# Altium footprint library WE-PD HV.PcbLib: 6 footprints
Each footprint in its own frame and in the unit in brackets; x right, y up, seen from the top. Pads: shape width x height; smd on the part's side, far side on the other; paste and mask are expansions set on the pad; w line width, h text height; cw(c..) or ccw(c..) is an arc to the next point about the centre after c.
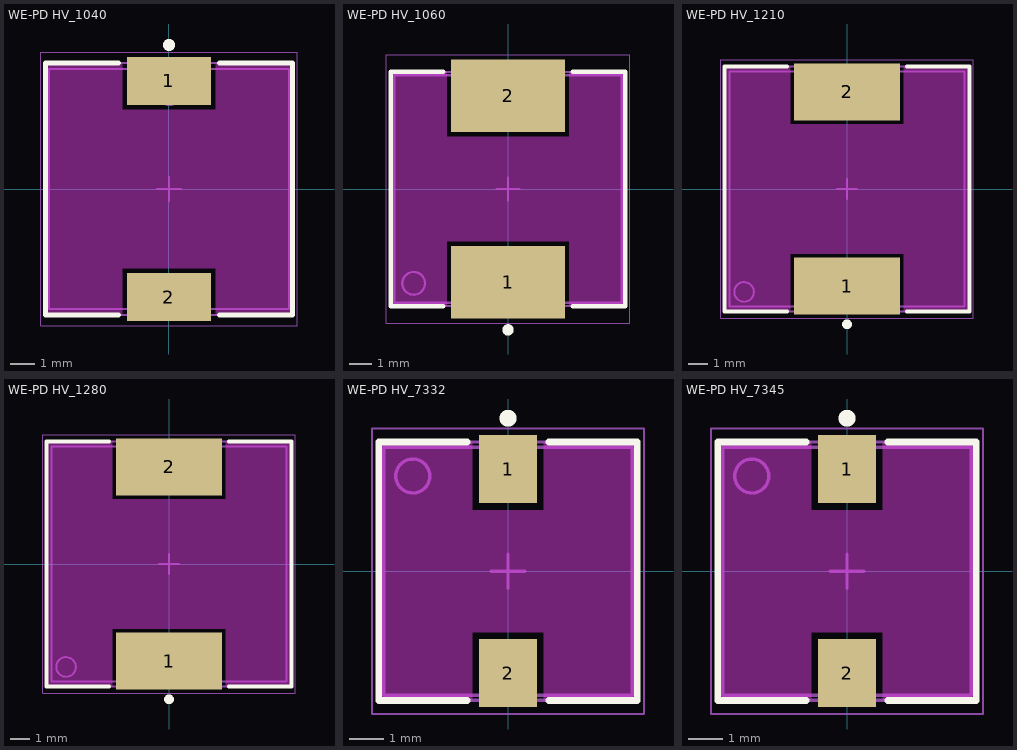
[diagram p0: the footprints below, top view; thin cyan lines are the x and y axes]

## WE-PD HV_1040 [mm] "SMT High Voltage Power Inductor, 2-Leads, body 10x10mm"
height 4
pads (2):
  rect 3.5x2 smd: 1(0,4.5) 2(0,-4.5)
Top Layer keep-out:
  region: -5.15,5.25 -5.15,-5.25 -1.95,-5.25 -1.95,-3.3 1.95,-3.3 1.95,-5.25 5.15,-5.25 5.15,5.25 1.95,5.25 1.95,3.3 -1.95,3.3 -1.95,5.25
Top Overlay:
  circle w0.25: c0,6 r0.125
  lines w0.2: -2.1,-5.25 -5.15,-5.25 -5.15,5.25 -2.1,5.25 ; 2.1,-5.25 5.15,-5.25 5.15,5.25 2.1,5.25
Top Assembly:
  circle w0.1: c0,4 r0.5
  lines w0.1: -5.15,-5.25 -5.15,5.25 5.15,5.25 5.15,-5.25 -5.15,-5.25
Top Designator:
  text ".Designator" at -3.647,-0.357 h1
Top 3D Body:
  circle w0.1: c0,4 r0.5
  lines w0.1: -5,-5 5,-5 5,5 -5,5 -5,-5
Top Courtyard:
  lines w0.05: -5.35,-5.7 5.35,-5.7 5.35,5.7 -5.35,5.7 -5.35,-5.7
Top Component Center:
  lines w0.1: -0.5,0 0.5,0 ; 0,-0.5 0,0.5
3D body "WE-PD HV_1040.stp": height 4.02, standoff 0.02, extent -5,-5 5,5

## WE-PD HV_1060 [mm] "SMT High Voltage Power Inductor, 2-Leads, body 10x10mm"
height 6
pads (2):
  rect 5x3.2 smd: 1(0,-4.1) 2(0,4.1)
Top Layer keep-out:
  region: -5.15,5.15 -5.15,-5.15 -2.7,-5.15 -2.7,-2.3 2.7,-2.3 2.7,-5.15 5.15,-5.15 5.15,5.15 2.7,5.15 2.7,2.3 -2.7,2.3 -2.7,5.15
Top Overlay:
  circle w0.25: c0,-6.2 r0.125
  lines w0.2: -2.85,-5.15 -5.15,-5.15 -5.15,5.15 -2.85,5.15 ; 2.85,-5.15 5.15,-5.15 5.15,5.15 2.85,5.15
Top Assembly:
  circle w0.1: c-4.15,-4.15 r0.5
  lines w0.1: -5.15,-5.15 5.15,-5.15 5.15,5.15 -5.15,5.15 -5.15,-5.15
Top Designator:
  text ".Designator" at -3.647,-0.357 h1
Top 3D Body:
  circle w0.1: c-4.15,-4.15 r0.5
  lines w0.1: -5,-5 5,-5 5,5 -5,5 -5,-5
Top Courtyard:
  lines w0.05: -5.35,-5.9 5.35,-5.9 5.35,5.9 -5.35,5.9 -5.35,-5.9
Top Component Center:
  lines w0.1: -0.5,0 0.5,0 ; 0,-0.5 0,0.5
3D body "7687714xxx.stp": height 5.7, standoff 0.05, extent -5,-5 5,5

## WE-PD HV_1210 [mm] "SMT High Voltage Power Inductor, 2-Leads, body 12.00x12.00mm"
height 10.5
pads (2):
  rect 5.4x2.9 smd: 1(0,-4.95) 2(0,4.95)
Top Layer keep-out:
  region: -6.25,6.25 -6.25,-6.25 -2.9,-6.25 -2.9,-3.3 2.9,-3.3 2.9,-6.25 6.25,-6.25 6.25,6.25 2.9,6.25 2.9,3.3 -2.9,3.3 -2.9,6.25
Top Overlay:
  circle w0.25: c0,-6.9 r0.125
  lines w0.2: -3.05,-6.25 -6.25,-6.25 -6.25,6.25 -3.05,6.25 ; 3.05,-6.25 6.25,-6.25 6.25,6.25 3.05,6.25
Top Assembly:
  circle w0.1: c-5.25,-5.25 r0.5
  lines w0.1: -6.25,-6.25 -6.25,6.25 6.25,6.25 6.25,-6.25 -6.25,-6.25
Top Designator:
  text ".Designator" at -3.647,-0.357 h1
Top 3D Body:
  circle w0.1: c-5.25,-5.25 r0.5
  lines w0.1: -6,-6 -6,6 6,6 6,-6 -6,-6
Top Courtyard:
  lines w0.05: -6.45,-6.6 -6.45,6.6 6.45,6.6 6.45,-6.6 -6.45,-6.6
Top Component Center:
  lines w0.1: -0.5,0 0.5,0 ; 0,-0.5 0,0.5
3D body "7687709xxx.stp": height 9.7, standoff 0, extent -6,-6 6,6

## WE-PD HV_1280 [mm] "SMT High Voltage Power Inductor, 2-Leads, body 12.00x12.00mm"
height 8.5
pads (2):
  rect 5.4x2.9 smd: 1(0,-4.95) 2(0,4.95)
Top Layer keep-out:
  region: -6.25,6.25 -6.25,-6.25 -2.9,-6.25 -2.9,-3.3 2.9,-3.3 2.9,-6.25 6.25,-6.25 6.25,6.25 2.9,6.25 2.9,3.3 -2.9,3.3 -2.9,6.25
Top Overlay:
  circle w0.25: c0,-6.9 r0.125
  lines w0.2: -3.05,-6.25 -6.25,-6.25 -6.25,6.25 -3.05,6.25 ; 3.05,-6.25 6.25,-6.25 6.25,6.25 3.05,6.25
Top Assembly:
  circle w0.1: c-5.25,-5.25 r0.5
  lines w0.1: -6.25,-6.25 6.25,-6.25 6.25,6.25 -6.25,6.25 -6.25,-6.25
Top Designator:
  text ".Designator" at -3.647,-0.357 h1
Top 3D Body:
  circle w0.1: c-5.25,-5.25 r0.5
  lines w0.1: -6,-6 6,-6 6,6 -6,6 -6,-6
Top Courtyard:
  lines w0.05: -6.45,-6.6 6.45,-6.6 6.45,6.6 -6.45,6.6 -6.45,-6.6
Top Component Center:
  lines w0.1: -0.5,0 0.5,0 ; 0,-0.5 0,0.5
3D body "WE-PD HV_1280.stp": height 8.5, standoff 0, extent -6,-6 6,6

## WE-PD HV_7332 [mm] "SMT High Voltage Power Inductor, 2-Leads, body 7.30x7.30mm"
height 3.2
pads (2):
  rect 1.7x2 smd: 1(0,3) 2(0,-3)
Top Layer keep-out:
  region: -3.8,3.8 -3.8,-3.8 -1.05,-3.8 -1.05,-1.8 1.05,-1.8 1.05,-3.8 3.8,-3.8 3.8,3.8 1.05,3.8 1.05,1.8 -1.05,1.8 -1.05,3.8
Top Overlay:
  circle w0.25: c0,4.5 r0.125
  lines w0.2: -1.2,-3.8 -3.8,-3.8 -3.8,3.8 -1.2,3.8 ; 1.2,-3.8 3.8,-3.8 3.8,3.8 1.2,3.8
Top Assembly:
  circle w0.1: c-2.8,2.8 r0.5
  lines w0.1: -3.8,-3.8 3.8,-3.8 3.8,3.8 -3.8,3.8 -3.8,-3.8
Top Designator:
  text ".Designator" at -3.647,-0.357 h1
Top 3D Body:
  circle w0.1: c-2.8,2.8 r0.5
  lines w0.1: -3.65,-3.65 3.65,-3.65 3.65,3.65 -3.65,3.65 -3.65,-3.65
Top Courtyard:
  lines w0.05: -4,-4.2 4,-4.2 4,4.2 -4,4.2 -4,-4.2
Top Component Center:
  lines w0.1: -0.5,0 0.5,0 ; 0,-0.5 0,0.5
3D body "7687789xx.stp": height 3.25, standoff 0.05, extent -3.65,-3.65 3.65,3.65

## WE-PD HV_7345 [mm] "SMT High Voltage Power Inductor, 2-Leads, body 7.30x7.30mm"
height 4.5
pads (2):
  rect 1.7x2 smd: 1(0,3) 2(0,-3)
Top Layer keep-out:
  region: -3.8,3.8 -3.8,-3.8 -1.05,-3.8 -1.05,-1.8 1.05,-1.8 1.05,-3.8 3.8,-3.8 3.8,3.8 1.05,3.8 1.05,1.8 -1.05,1.8 -1.05,3.8
Top Overlay:
  circle w0.25: c0,4.5 r0.125
  lines w0.2: -1.2,-3.8 -3.8,-3.8 -3.8,3.8 -1.2,3.8 ; 1.2,-3.8 3.8,-3.8 3.8,3.8 1.2,3.8
Top Assembly:
  circle w0.1: c-2.8,2.8 r0.5
  lines w0.1: -3.8,-3.8 3.8,-3.8 3.8,3.8 -3.8,3.8 -3.8,-3.8
Top Designator:
  text ".Designator" at -3.647,-0.357 h1
Top 3D Body:
  circle w0.1: c-2.8,2.8 r0.5
  lines w0.1: -3.65,-3.65 3.65,-3.65 3.65,3.65 -3.65,3.65 -3.65,-3.65
Top Courtyard:
  lines w0.05: -4,-4.2 4,-4.2 4,4.2 -4,4.2 -4,-4.2
Top Component Center:
  lines w0.1: -0.5,0 0.5,0 ; 0,-0.5 0,0.5
3D body "7687779xxx.stp": height 4.1, standoff 0.05, extent -3.65,-3.65 3.65,3.65